# Altium schematic symbol library MAX14759ETA+T.SchLib: 1 symbol
Pins are listed as number, name and electrical type; pins without a type are passive.

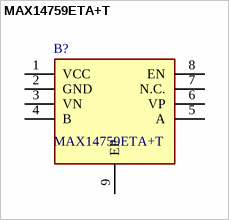
[diagram p0: symbol MAX14759ETA+T]

## MAX14759ETA+T
designator B?
Above- and Below-the-Rails Low On-Resistance Analog Switches; Manufacturer_Name: Analog Devices; Geometry.Height: 0.8mm; Manufacturer_Part_Number: MAX14759ETA+T; Mouser Part Number: 700-MAX14759ETA+T; Mouser Price/Stock: https://www.mouser.co.uk/ProductDetail/Analog-Devices-Maxim-Integrated/MAX14759ETA%2bT?qs=2cAdsCoAWRFgTjPJwgxqqQ%3D%3D; Arrow Part Number: MAX14759ETA+T; Arrow Price/Stock: https://www.arrow.com/en/products/max14759etat/analog-devices?utm_currency=USD&region=nac; Datasheet Link: https://datasheets.maximintegrated.com/en/ds/MAX14759-MAX14763.pdf
footprint SON65P300X300X80-9N
pins: 1 VCC, 2 GND, 3 VN, 4 B, 5 A, 6 VP, 7 N.C., 8 EN, 9 EP